# Altium schematic symbol library 7400.SchLib: 6 symbols
Pins are listed as number, name and electrical type; pins without a type are passive.

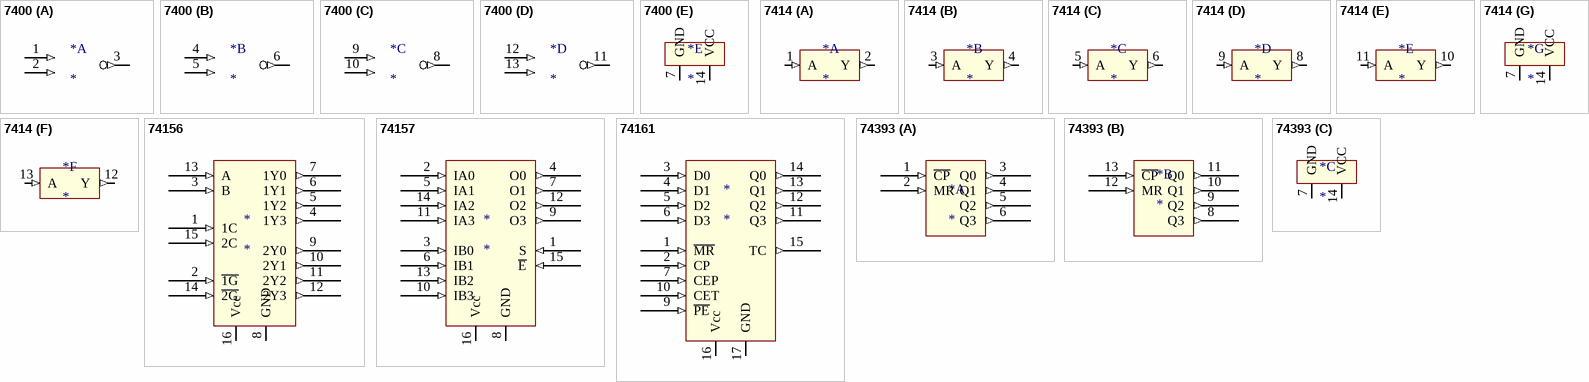
[diagram p0: symbols 7400 to 74393]

## 7400
designator *
4 x 2-input NAND gate
part A pins: 1 A (in), 2 B (in), 3 Y (out)
part B pins: 4 A (in), 5 B (in), 6 Y (out)
part C pins: 8 Y (out), 9 A (in), 10 B (in)
part D pins: 11 Y (out), 12 A (in), 13 B (in)
part E pins: 7 GND (power), 14 VCC (power)

## 7414
designator *
6 x hex Schmitt trigger inverter
part A pins: 1 A (in), 2 Y (out)
part B pins: 3 A (in), 4 Y (out)
part C pins: 5 A (in), 6 Y (out)
part D pins: 8 Y (out), 9 A (in)
part E pins: 10 Y (out), 11 A (in)
part F pins: 12 Y (out), 13 A (in)
part G pins: 7 GND (power), 14 VCC (power)

## 74156
designator *
2 x 2-line to 4-line decoder/demultiplexer with open collector outputs
pins: 1 1C (in), 2 ~{1G} (in), 3 B (in), 4 1Y3 (out), 5 1Y2 (out), 6 1Y1 (out), 7 1Y0 (out), 8 GND (power), 9 2Y0 (out), 10 2Y1 (out), 11 2Y2 (out), 12 2Y3 (out), 13 A (in), 14 ~{2G} (in), 15 2C (in), 16 Vcc (power)

## 74157
designator *
4 x 2-line to 1-line data selector/multiplexer, noninverting
pins: 1 S (in), 2 IA0 (in), 3 IB0 (in), 4 O0 (out), 5 IA1 (in), 6 IB1 (in), 7 O1 (out), 8 GND (power), 9 O3 (out), 10 IB3 (in), 11 IA3 (in), 12 O2 (out), 13 IB2 (in), 14 IA2 (in), 15 ~{E} (in), 16 Vcc (power)

## 74161
designator *
synchronous 4-bit binary counter with asynchronous clear
pins: 1 ~{MR} (in), 2 CP (in), 3 D0 (in), 4 D1 (in), 5 D2 (in), 6 D3 (in), 7 CEP (in), 9 ~{PE} (in), 10 CET (in), 11 Q3 (out), 12 Q2 (out), 13 Q1 (out), 14 Q0 (out), 15 TC (out), 16 Vcc (power), 17 GND (power)

## 74393
designator *
dual 4-bit binary counter
part A pins: 1 ~{CP} (in), 2 MR (in), 3 Q0 (out), 4 Q1 (out), 5 Q2 (out), 6 Q3 (out)
part B pins: 8 Q3 (out), 9 Q2 (out), 10 Q1 (out), 11 Q0 (out), 12 MR (in), 13 ~{CP} (in)
part C pins: 7 GND (power), 14 VCC (power)